# Altium footprint library SWITCH.PCBLIB: 95 footprints (part 6 of 6)
Each footprint in its own frame and in the unit in brackets; x right, y up, seen from the top. Pads: shape width x height; smd on the part's side, far side on the other; paste and mask are expansions set on the pad; w line width, h text height; cw(c..) or ccw(c..) is an arc to the next point about the centre after c.
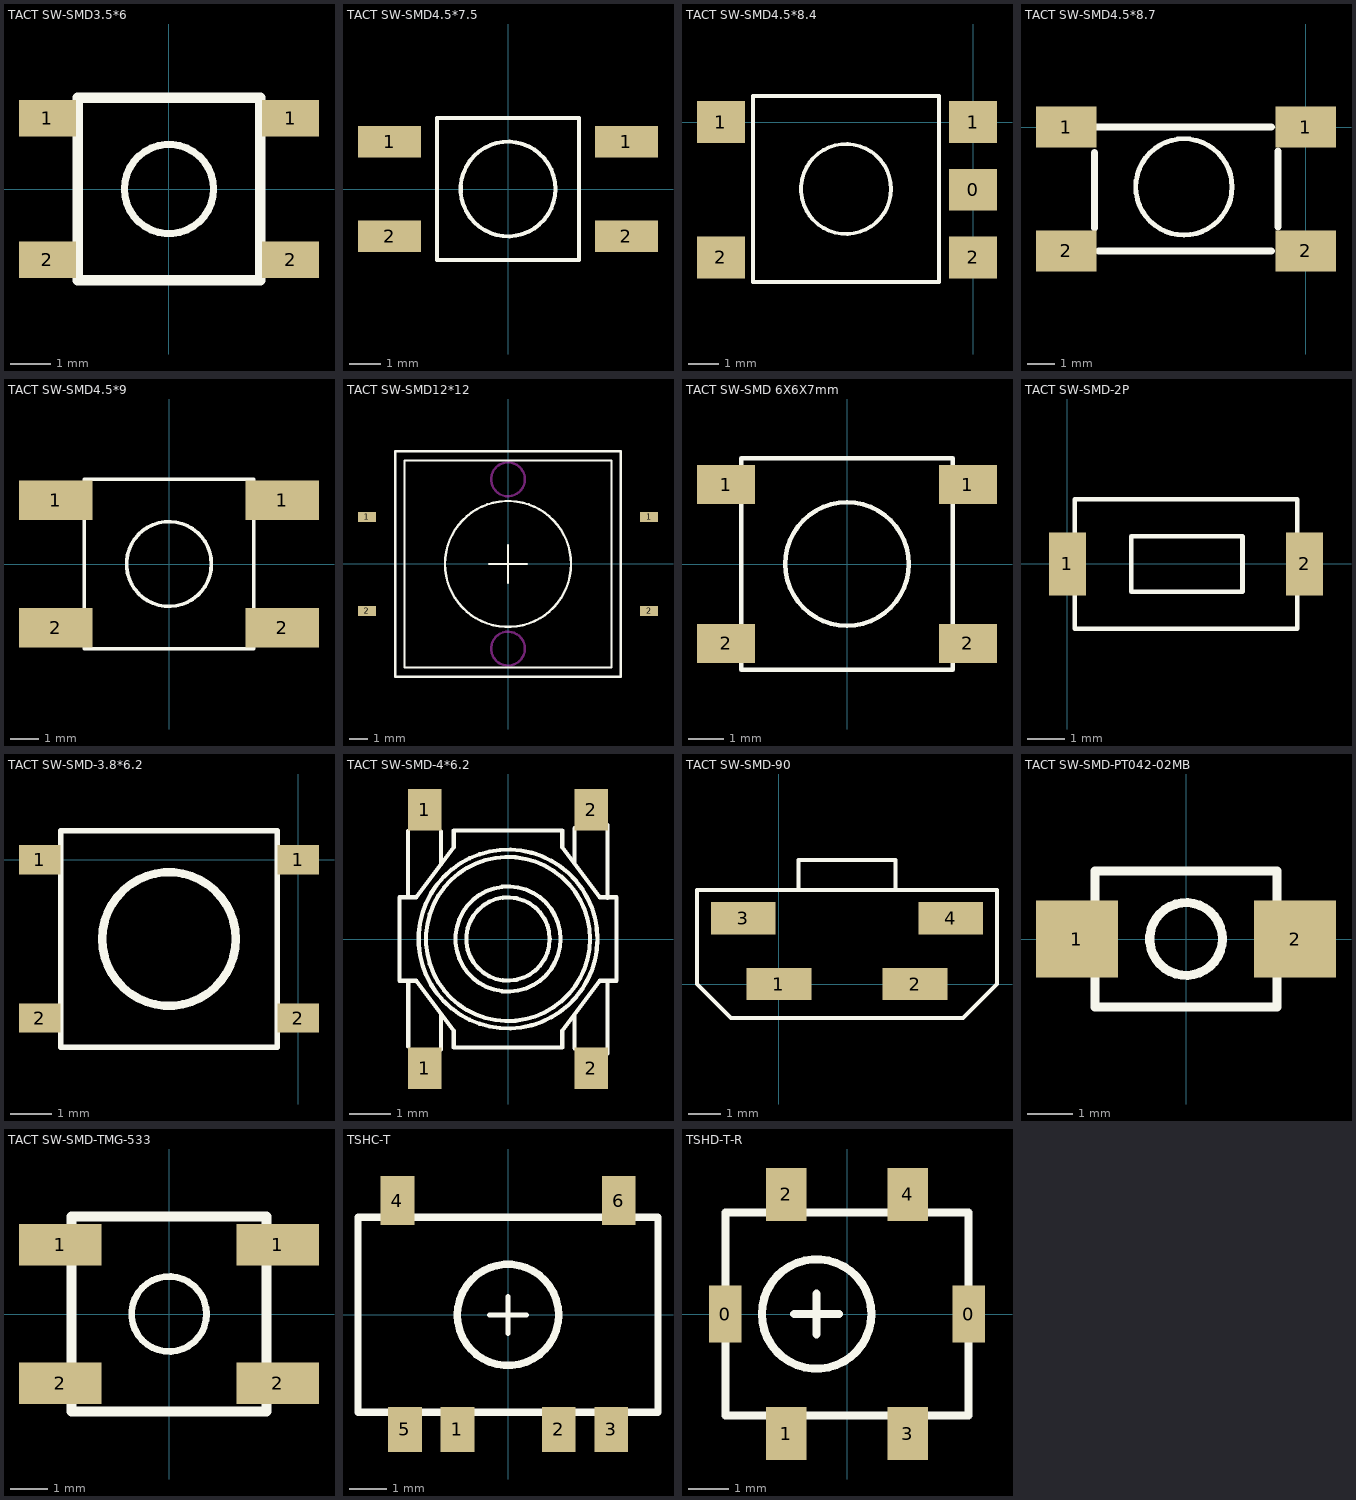
[diagram p5: the footprints below, top view; thin cyan lines are the x and y axes]

## TACT SW-SMD3.5*6 [mm]
pads (4):
  rect 1.4x0.9 smd: 1(-3,1.75) 1(3,1.75) 2(-3,-1.75) 2(3,-1.75)
TopOverlay:
  circle w0.178: c0,0 r1.1
  lines w0.254: -2.25,-2.25 -2.25,2.25 2.25,2.25 2.25,-2.25 -2.25,-2.25

## TACT SW-SMD4.5*7.5 [mm]
pads (4):
  rect 2x1 smd: 1(-3.75,1.5) 1(3.75,1.5) 2(-3.75,-1.5) 2(3.75,-1.5)
TopOverlay:
  circle w0.127: c0,0 r1.5
  lines w0.127: -2.25,-2.25 2.25,-2.25 2.25,2.25 -2.25,2.25 -2.25,-2.25

## TACT SW-SMD4.5*8.4 [mm]
pads (5):
  rect 1.6x1.4 smd: 0(0,-2.25) 1(-8.4,0) 1(0,0) 2(-8.4,-4.5) 2(0,-4.5)
TopOverlay:
  circle w0.127: c-4.232,-2.225 r1.5
  lines w0.127: -7.332,-5.325 -1.132,-5.325 -1.132,0.875 -7.332,0.875 -7.332,-5.325

## TACT SW-SMD4.5*8.7 [mm]
pads (4):
  rect 2.2x1.5 smd: 1(-8.7,0) 1(0,0) 2(-8.7,-4.5) 2(0,-4.5)
TopOverlay:
  circle w0.178: c-4.425,-2.175 r1.75
  lines w0.254: -7.675,-3.675 -7.675,-0.925 ; -7.575,0 -1.25,0 ; -7.525,-4.5 -1.25,-4.5 ; -1,-3.625 -1,-0.875

## TACT SW-SMD4.5*9 [mm]
pads (4):
  rect 2.6x1.4 smd: 1(-4,2.25) 1(4,2.25) 2(-4,-2.25) 2(4,-2.25)
TopOverlay:
  circle w0.127: c0,0 r1.5
  lines w0.127: -3,-3 -3,3 3,3 3,-3 -3,-3

## TACT SW-SMD12*12 [mm]
pads (4):
  rect 0.95x0.55 smd: 1(-7.5,2.5) 1(7.5,2.5) 2(-7.5,-2.5) 2(7.5,-2.5)
TopOverlay:
  circle w0.127: c0,0 r3.35
  lines w0.127: -1,-0.001 1,-0.001 ; 0,-1.001 0,0.999 ; -6,-6.001 6,-6.001 6,5.999 -6,5.999 -6,-6.001 ; -5.5,-5.501 5.5,-5.501 5.5,5.499 -5.5,5.499 -5.5,-5.501
KeepOutLayer:
  circle w0.127: c0,-4.5 r0.9
  circle w0.127: c0,4.5 r0.9

## TACT SW-SMD 6X6X7mm [mm] "TACT SW-SMD 6X6X7mm"
pads (4):
  rect 1.65x1.1 smd: 1(-3.425,2.25) 1(3.425,2.25) 2(-3.425,-2.25) 2(3.425,-2.25)
TopOverlay:
  circle w0.127: c0,0 r1.75
  lines w0.127: -3,-3 3,-3 3,3 -3,3 -3,-3

## TACT SW-SMD-2P [mm]
pads (2):
  rect 1x1.7 smd: 1(0,0) 2(6.4,0)
TopOverlay:
  lines w0.127: 4.723,-0.751 1.724,-0.751 1.724,0.749 4.724,0.749 4.724,-0.75 ; 0.2,-1.75 6.2,-1.75 6.2,1.75 0.2,1.75 0.2,-1.75

## TACT SW-SMD-3.8*6.2 [mm]
pads (4):
  rect 1x0.7 smd: 1(-6.2,0) 1(0,0) 2(-6.2,-3.8) 2(0,-3.8)
TopOverlay:
  circle w0.2: c-3.1,-1.9 r1.603
  lines w0.127: -5.7,-4.5 -0.5,-4.5 -0.5,0.7 -5.7,0.7 -5.7,-4.5

## TACT SW-SMD-4*6.2 [mm]
pads (4):
  rect 0.8x1 smd: 1(-2,-3.1) 1(-2,3.1) 2(2,-3.1) 2(2,3.1)
TopOverlay:
  circle w0.1: c0,0 r1
  circle w0.1: c0,0 r1.26
  circle w0.1: c0,0 r2.146
  circle w0.1: c0,0 r1.969
  lines w0.1: -2.403,0.999 -2.403,2.593 ; -2.395,-2.578 -2.395,-1.009 ; -1.61,-2.656 -1.61,-1.794 ; -1.606,1.785 -1.606,2.582 ; 1.594,-2.623 1.594,-1.827 ; 1.594,1.809 1.594,2.66 ; 2.39,-2.744 2.39,-1.009 ; 2.39,0.991 2.39,2.737 ; -2.6,-1 -2.6,1 -2.2,1 -1.3,2.2 -1.3,2.6 1.3,2.6 1.3,2.2 2.2,1 2.6,1 2.6,-1 2.2,-1 1.3,-2.2 1.3,-2.6 -1.3,-2.6 -1.3,-2.2 -2.2,-1 -2.6,-1

## TACT SW-SMD-90 [mm]
pads (4):
  rect 2x1 smd: 1(0,0) 2(4.2,0) 3(-1.1,2.025) 4(5.3,2.025)
TopOverlay:
  lines w0.127: 0.6,2.925 0.6,3.825 3.6,3.825 3.6,2.925 ; -2.525,0 -2.525,2.9 6.725,2.9 6.725,0 5.675,-1.05 -1.475,-1.05 -2.525,0

## TACT SW-SMD-PT042-02MB [mm]
pads (2):
  rect 1.8x1.7 smd: 1(-2.4,0) 2(2.4,0)
TopOverlay:
  circle w0.2: c0,0 r0.8
  lines w0.2: -2,-1.5 -2,1.5 2,1.5 2,-1.5 -2,-1.5

## TACT SW-SMD-TMG-533 [mm]
pads (4):
  rect 2.2x1.1 smd: 1(-2.9,1.85) 1(2.9,1.85) 2(-2.9,-1.85) 2(2.9,-1.85)
TopOverlay:
  circle w0.178: c0,0 r1
  lines w0.254: -2.6,-2.6 2.6,-2.6 2.6,2.6 -2.6,2.6 -2.6,-2.6

## TSHC-T [mm]
pads (6):
  rect 0.9x1.2 smd: 1(-1.35,-3.05) 2(1.35,-3.05) 3(2.75,-3.05) 5(-2.75,-3.05)
  rect 0.9x1.3 smd: 4(-2.95,3.05) 6(2.95,3.05)
TopOverlay:
  circle w0.2: c0,0 r1.35
  lines w0.127: -0.5,0 0.5,0 ; 0,-0.5 0,0.5
  lines w0.2: -4,-2.6 4,-2.6 4,2.6 -4,2.6 -4,-2.6

## TSHD-T-R [mm]
pads (6):
  rect 0.8x1.4 smd: 0(-3,0) 0(3,0)
  rect 1x1.3 smd: 1(-1.5,-2.95) 2(-1.5,2.95) 3(1.5,-2.95) 4(1.5,2.95)
TopOverlay:
  circle w0.2: c-0.75,0 r1.35
  lines w0.2: -1.3,0 -0.2,0 ; -0.75,-0.5 -0.75,0.5 ; -3,-2.5 -3,2.5 3,2.5 3,-2.5 -3,-2.5